# Altium schematic symbol library ECR.SchLib: 21 symbols
Pins are listed as number, name and electrical type; pins without a type are passive.

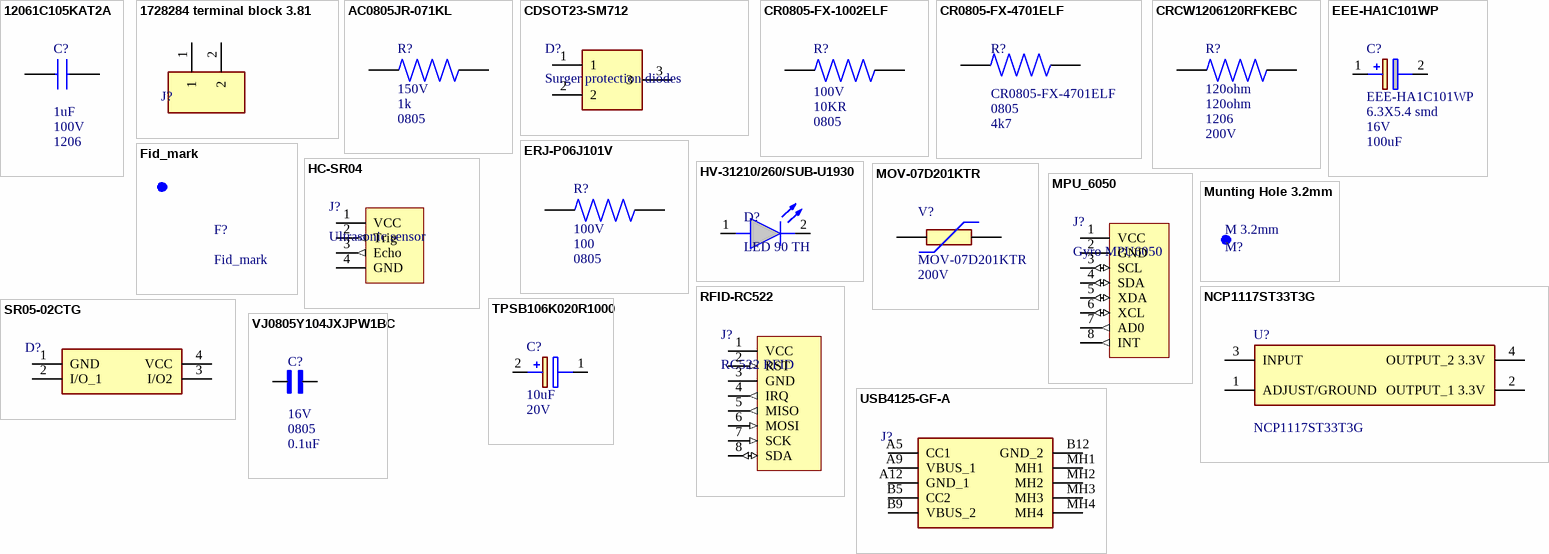
[diagram p0: symbols 12061C105KAT2A to VJ0805Y104JXJPW1BC]

## 12061C105KAT2A
designator C?  value 1uF  Voltage: 100V  Package: 1206  (hidden comment: 12061C105KAT2A)
Capacitor MLCC 1206 1uF 100V AVX 1206 FlEXITERM 1??F Ceramic Multilayer Capacitor, 100 V dc X7R Dielectric ??10% SMD; Geometry.Height: 2.29mm; Manufacturer_Name: AVX; Manufacturer_Part_Number: 12061C105KAT2A; Mouser Part Number: 581-12061C105KAT2A; Mouser Price/Stock: https://www.mouser.co.uk/ProductDetail/AVX/12061C105KAT2A?qs=sEn5VCT5PiZZ0oBgoI7byA%3D%3D; Arrow Part Number: 12061C105KAT2A; Arrow Price/Stock: https://www.arrow.com/en/products/12061c105kat2a/avx; Datasheet Link: http://datasheets.avx.com/X7RDielectric.pdf
footprint CAPC3216X229N
pins: 1, 2

## 1728284 terminal block 3.81
designator J?, comment 3.81mm wire to pcb  (value not drawn)
TERM BLOCK 2POS 55DEG 3.81MM PCB; Manufacturer: Phoenix contact; Price: 1
footprint 1728284 3.81 wire to pcb (wire to pcb termincal block)
pins: 1, 2

## AC0805JR-071KL
designator R?, comment value 1k  Voltage: 150V  Package: 0805  (hidden comment: 1kohm 0805)
Thick Film Resistors - SMD 1 k Ohms 125mW 0805 5% AEC-Q200 Standard Power Version; MF: {'manufacturer': u'Bourns'}; MP: AC0805JR-071KL; Availability: Unavailable; Tolerance: 5%
footprint 0805_RESC2012X50N
pins: 1, 2

## CDSOT23-SM712
designator D?, comment Surger protection diodes
Diode; Manufacturer_Name: Bourns; Manufacturer_Part_Number: CDSOT23-SM712; Datasheet Link: http://uk.rs-online.com/web/p/products/7673728; Height: 1.17mm; Mouser Part Number: 652-CDSOT23-SM712; Mouser Price/Stock: https://www.mouser.co.uk/ProductDetail/Bourns/CDSOT23-SM712?qs=FuI%252BOVLl4%2FLTY%2FGQ265RLA%3D%3D; Arrow Part Number: CDSOT23-SM712; Arrow Price/Stock: https://www.arrow.com/en/products/cdsot23-sm712/bourns?region=europe
footprint SOT95P230X117-3N
pins: 1, 2, 3

## CR0805-FX-1002ELF
designator R?, comment value 10KR  Voltage: 100V  Package: 0805  (hidden comment: 10K 0805)
RESISITOR, 0805, 10KR, 1%; Power Rating:125mW; Resistance:10kohm; Resistance Tolerance:Â± 1%; Series:CR; Operating Temperature Range:-55Â°C to +155Â°C; Resistor Element Type:Thick Film; Voltage, Rating:100V; Temperature Coefficient:Â± 100ppm; Case Style:0805; MF: {'manufacturer': u'Bourns'}; MP: CR0805-FX-1002ELF; Availability: Unavailable
footprint 0805_RESC2012X50N
pins: 1, 2

## CR0805-FX-4701ELF
designator R?  value 4k7  Package: 0805
BOURNS - CR0805-FX-4701ELF - RES, THICK FILM, 4K7, 1%, 0.125W, 0805; Geometry.Height: 0.6mm; Manufacturer_Name: Bourns; Manufacturer_Part_Number: CR0805-FX-4701ELF; Mouser Part Number: 652-CR0805FX-4701ELF; Mouser Price/Stock: https://www.mouser.co.uk/ProductDetail/Bourns/CR0805-FX-4701ELF?qs=TYKCbaKwe1AuFEtkTBQjKg%3D%3D; Arrow Part Number: CR0805-FX-4701ELF; Arrow Price/Stock: https://www.arrow.com/en/products/cr0805-fx-4701elf/bourns?region=europe; Datasheet Link: https://www.bourns.com/pdfs/chpreztr.pdf
footprint 0805_RESC2012X50N
pins: 1, 2

## CRCW1206120RFKEBC
designator R?, comment 120ohm  Package: 1206  Voltage: 200V
RES 120 OHM 5% 1/4W 1206; Part Number: CRCW1206120RFKEBC; Value: 120ohm
footprint 1206_RESC3216X06N (Chip Resistor, 2-Leads, Body 3.15x1.65mm, IPC Medium Density)
pins: 1, 2

## EEE-HA1C101WP
designator C?  value 100uF  Package: 6.3X5.4 smd  Voltage: 16V
Cap Aluminum Lytic 100uF 16V 20% (6.3 X 5.4mm) SMD 70mA 1000h 105C Automotive T/R
footprint CAPAE660X800N
pins: 1 +, 2 -

## ERJ-P06J101V
designator R?, comment value 100  Voltage: 100V  Package: 0805  (hidden comment: 100ohm 0805)
Thick Film Resistors - SMD 0805 100ohms 0.5W 5% Tolerance; MF: {'manufacturer': u'Bourns'}; MP: ERJ-P06J101V; Availability: Unavailable; Tolerance: 5%
footprint 0805_RESC2012X50N
pins: 1, 2

## Fid_mark
designator F?  (no BOM)
Fiducial_mark
footprint FUP

## HC-SR04
designator J?, comment Ultrasonic sensor
Hc Sr04 Arduino Ultrasonic Sensor
footprint UltraSonic 4 Pins
pins: 1 VCC (power), 2 Trig (out), 3 Echo (out), 4 GND (power)

## HV-31210/260/SUB-U1930
designator D?, comment LED 90 TH
HARVATEK 3.0MM ROUND LED LAMP WI; Color: Blue; Package: TH 90degree
footprint HV-31210/260/SUB-U1930
pins: 1 A, 2 K

## MOV-07D201KTR
designator V?  Voltage: 200V
VARISTOR 200V 1.2KA DISC 7MM; Manufacturer_Name: Bourns; Geometry.Height: 11mm; Manufacturer_Part_Number: MOV-07D201KTR; Mouser Part Number: 652-MOV-07D201KTR; Mouser Price/Stock: https://www.mouser.co.uk/ProductDetail/Bourns/MOV-07D201KTR?qs=lgttKnAd%252B2CY9Zo2Or70XQ%3D%3D; Arrow Part Number: MOV-07D201KTR; Arrow Price/Stock: https://www.arrow.com/en/products/mov-07d201ktr/bourns?region=nac; Datasheet Link: https://www.bourns.com/docs/Product-Datasheets/MOV07D.pdf; Disk: 7mm
footprint MOV07D201KTR
pins: 1, 2

## MPU_6050
designator J?, comment Gyro MPU6050
MPU_6050 / Gyroscope
footprint MPU_8pin
pins: 1 VCC (power), 2 GND (power), 3 SCL (io), 4 SDA (io), 5 XDA (io), 6 XCL (io), 7 AD0 (out), 8 INT (out)

## Munting Hole 3.2mm
designator M?, comment M 3.2mm  (no BOM)
PCB Munting Hole 3.2mm; Package: Mounting Screw
footprint Screw Hole 3.2mm (PCB Mounting Hole 3.2mm)

## NCP1117ST33T3G
designator U?
ON SEMICONDUCTOR - NCP1117ST33T3G - IC, LINEAR VOLTAGE REGULATOR; Manufacturer_Name: onsemi; Geometry.Height: 1.8mm; Manufacturer_Part_Number: NCP1117ST33T3G; Mouser Part Number: 863-NCP1117ST33T3G; Mouser Price/Stock: https://www.mouser.co.uk/ProductDetail/onsemi/NCP1117ST33T3G?qs=Gev%252BmEvV0iZb%2FE8ahUDx3w%3D%3D; Arrow Part Number: NCP1117ST33T3G; Arrow Price/Stock: https://www.arrow.com/en/products/ncp1117st33t3g/on-semiconductor?region=europe; Datasheet Link: http://www.onsemi.com/pub/Collateral/NCP1117-D.PDF
footprint SOT230P700X180-4N
pins: 1 ADJUST/GROUND, 2 OUTPUT_1 3.3V, 3 INPUT, 4 OUTPUT_2 3.3V

## RFID-RC522
designator J?, comment RC522 RFID
RFID card reader
footprint RFID_8pin
pins: 1 VCC (power), 2 RST (in), 3 GND (power), 4 IRQ (out), 5 MISO (out), 6 MOSI (in), 7 SCK (in), 8 SDA (io)

## SR05-02CTG
designator D?, comment 5V fuse USB line  (value not drawn)
LITTELFUSE - SR05-02CTG - DIODE, ESD PROTECTION, 5V, SOT-143; Datasheet Link: https://www.arrow.com/en/products/sr05-02ctg/littelfuse; Height: 1mm; Manufacturer_Name: LITTELFUSE; Manufacturer_Part_Number: SR05-02CTG; Mouser Part Number: 576-SR05-02CTG; Mouser Price/Stock: https://www.mouser.co.uk/ProductDetail/Littelfuse/SR05-02CTG?qs=txCqAXsCGkfW1ErBg03wlg%3D%3D; Arrow Part Number: SR05-02CTG; Arrow Price/Stock: https://www.arrow.com/en/products/sr05-02ctg/littelfuse?region=nac
footprint SR0502CTG
pins: 1 GND, 2 I/O_1, 3 I/O2, 4 VCC

## TPSB106K020R1000
designator C?, comment value 10uF  Voltage: 20V  (hidden comment: 10uF SMD Tantalum)
TPS SMT tant capacitor,Case B,20V,10uF AVX 10uF SMD Solid MnO2 Tantalum Electrolytic Capacitor, 20 V dc /-10%, TPS Series; Manufacturer_Name: Kyocera AVX; Manufacturer_Part_Number: TPSB106K020R1000; Datasheet Link: http://datasheets.avx.com/TPS.pdf; Height: 2.1mm; Mouser Part Number: 581-TPSB106K020R1000; Mouser Price/Stock: https://www.mouser.co.uk/ProductDetail/AVX/TPSB106K020R1000?qs=SRux0XfyV6nBXE%252BNULTPuA%3D%3D; Arrow Part Number: TPSB106K020R1000; Arrow Price/Stock: https://www.arrow.com/en/products/tpsb106k020r1000/avx
footprint CAPPM3528X210N
pins: 1, 2

## USB4125-GF-A
designator J?, comment USB Type C PCB  (value not drawn)
USB-C (USB TYPE-C) Receptacle Connector 24 (6+18 Dummy) Position Surface Mount, Right Angle; Through Hole; Manufacturer_Name: GCT (GLOBAL CONNECTOR TECHNOLOGY); Manufacturer_Part_Number: USB4125-GF-A; Datasheet Link: https://gct.co/files/drawings/usb4125.pdf?v=f2858e04-a173-4b74-b17f-8f865ddc3728; Height: 3.41mm; Mouser Part Number: 640-USB4125-GF-A; Mouser Price/Stock: https://www.mouser.co.uk/ProductDetail/GCT/USB4125-GF-A?qs=KUoIvG%2F9IlaIQ4zBJ6gLeA%3D%3D
footprint USB4125GFA
pins: A5 CC1, A9 VBUS_1, A12 GND_1, B5 CC2, B9 VBUS_2, B12 GND_2, MH1, MH2, MH3, MH4

## VJ0805Y104JXJPW1BC
designator C?, comment value 0.1uF  Voltage: 16V  Package: 0805  (hidden comment: 0.1uF 0805)
Cap Ceramic 0.1uF 16V X7R 5% SMD 0805 125Â°C Paper T/R; MF: Vishay Vitramon; MP: VJ0805Y104JXJPW1BC; SnapEDA_Link: https://www.snapeda.com/parts/VJ0805Y104JXJPW1BC/Vishay+Vitramon/view-part/?ref=snap; Check_prices: https://www.snapeda.com/parts/VJ0805Y104JXJPW1BC/Vishay+Vitramon/view-part/?ref=eda
footprint CAPC2012X90N
pins: 1, 2